# EAGLE library part OPENLOG (library open_hw_sockets)
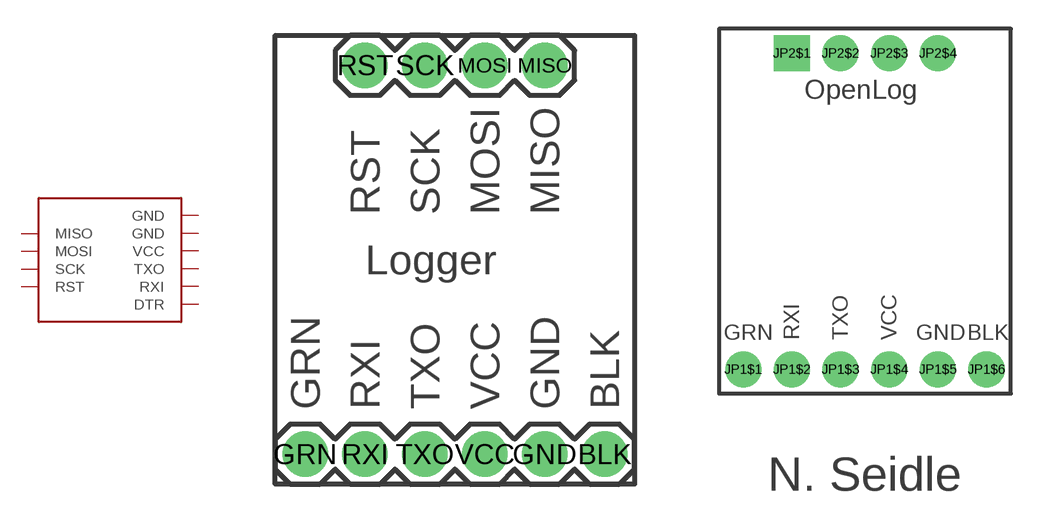
[diagram p1: symbol with the pads of OPENLOG; footprints OPENLOG, TEST_OPENLOG]

Designator prefix -

## OPENLOG  [OPENLOG]
BLK  GND  pwr
GND  GND  pwr
GRN  DTR  in
MISO  MISO
MOSI  MOSI
RST  RST  in
RXI  RXI  in
SCK  SCK
TXO  TXO  out
VCC  VCC  pwr

## OPENLOGTEST  [TEST_OPENLOG]
JP1$1  DTR  in
JP1$2  RXI  in
JP1$3  TXO  out
JP1$4  VCC  pwr
JP1$5  GND  pwr
JP1$6  GND  pwr
JP2$1  RST  in
JP2$2  SCK
JP2$3  MOSI
JP2$4  MISO

## Footprint OPENLOG (pad centres in mm)
drill 1 pad 1.93: BLK 6.35,0; GND 3.81,0; GRN -6.35,0; MISO 3.81,16.51; MOSI 1.27,16.51; RST -3.81,16.51; RXI -3.81,0; SCK -1.27,16.51; TXO -1.27,0; VCC 1.27,0

## Footprint TEST_OPENLOG (pad centres in mm)
drill 0.8 pad 1.88: JP1$1 1.27,1.27; JP1$2 3.81,1.27; JP1$3 6.35,1.27; JP1$4 8.89,1.27; JP1$5 11.43,1.27; JP1$6 13.97,1.27; JP2$2 6.35,17.78; JP2$3 8.89,17.78; JP2$4 11.43,17.78
drill 0.8 pad 1.88 square: JP2$1 3.81,17.78